# Altium schematic symbol library 90272A836.SchLib: 1 symbol
Pins are listed as number, name and electrical type; pins without a type are passive.

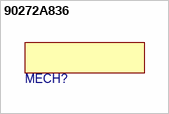
[diagram p0: symbol 90272A836]

## 90272A836
designator MECH?  (mechanical)